# Altium schematic symbol library GCT_USB-C.SchLib: 4 symbols
Pins are listed as number, name and electrical type; pins without a type are passive.

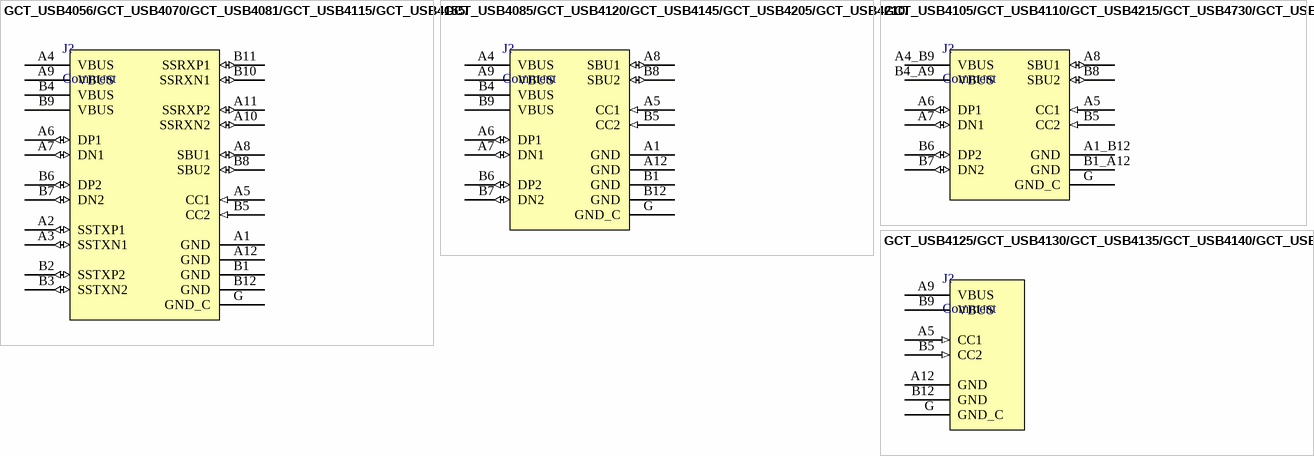
[diagram p0: symbols GCT_USB4056/GCT_USB4070/GCT_USB4081/GCT_USB4115/GCT_USB4155/GCT_USB4160/GCT_USB4200/GCT_USB4230/GCT_USB4725/GCT_USB4225/GCT_USB4745 to GCT_USB4125/GCT_USB4130/GCT_USB4135/GCT_USB4140/GCT_USB4175/GCT_USB4180]

## GCT_USB4056/GCT_USB4070/GCT_USB4081/GCT_USB4115/GCT_USB4155/GCT_USB4160/GCT_USB4200/GCT_USB4230/GCT_USB4725/GCT_USB4225/GCT_USB4745
designator J?, comment Comment
pins: A1 GND (power) "Ground return", A2 SSTXP1 (io) "Positive half of first SuperSpeed TX differential pair", A3 SSTXN1 (io) "Negative half of first SuperSpeed TX differential pair", A4 VBUS (power) "Bus Power", A5 CC1 (in) "Configuration Channel", A6 DP1 (io) "Positive half of the USB 2.0 differential pair – Position 1", A7 DN1 (io) "Negative half of the USB 2.0 differential pair – Position 1", A8 SBU1 (io) "Sideband Use (SBU)", A9 VBUS (power) "Bus Power", A10 SSRXN2 (io) "Negative half of second SuperSpeed RX differential pair", A11 SSRXP2 (io) "Positive half of second SuperSpeed RX differential pair", A12 GND (power) "Ground return", B1 GND (power) "Ground return", B2 SSTXP2 (io) "Positive half of second SuperSpeed TX differential pair", B3 SSTXN2 (io) "Negative half of second SuperSpeed TX differential pair", B4 VBUS (power) "Bus Power", B5 CC2 (in) "Configuration Channel", B6 DP2 (io) "Positive half of the USB 2.0 differential pair – Position 2", B7 DN2 (io) "Negative half of the USB 2.0 differential pair – Position 2", B8 SBU2 (io) "Sideband Use (SBU)", B9 VBUS (power) "Bus Power", B10 SSRXN1 (io) "Negative half of first SuperSpeed RX differential pair", B11 SSRXP1 (io) "Positive half of first SuperSpeed RX differential pair", B12 GND (power) "Ground return", G GND_C (power) "Chassis ground"

## GCT_USB4085/GCT_USB4120/GCT_USB4145/GCT_USB4205/GCT_USB4210/GCT_USB4220/GCT_USB4235
designator J?, comment Comment
pins: A1 GND (power) "Ground return", A4 VBUS (power) "Bus Power", A5 CC1 (in) "Configuration Channel", A6 DP1 (io) "Positive half of the USB 2.0 differential pair – Position 1", A7 DN1 (io) "Negative half of the USB 2.0 differential pair – Position 1", A8 SBU1 (io) "Sideband Use (SBU)", A9 VBUS (power) "Bus Power", A12 GND (power) "Ground return", B1 GND (power) "Ground return", B4 VBUS (power) "Bus Power", B5 CC2 (in) "Configuration Channel", B6 DP2 (io) "Positive half of the USB 2.0 differential pair – Position 2", B7 DN2 (io) "Negative half of the USB 2.0 differential pair – Position 2", B8 SBU2 (io) "Sideband Use (SBU)", B9 VBUS (power) "Bus Power", B12 GND (power) "Ground return", G GND_C (power) "Chassis ground"

## GCT_USB4105/GCT_USB4110/GCT_USB4215/GCT_USB4730/GCT_USB4800
designator J?, comment Comment
pins: A1_B12 GND (power) "Ground return", A4_B9 VBUS (power) "Bus Power", A5 CC1 (in) "Configuration Channel", A6 DP1 (io) "Positive half of the USB 2.0 differential pair – Position 1", A7 DN1 (io) "Negative half of the USB 2.0 differential pair – Position 1", A8 SBU1 (io) "Sideband Use (SBU)", B1_A12 GND (power) "Ground return", B4_A9 VBUS (power) "Bus Power", B5 CC2 (in) "Configuration Channel", B6 DP2 (io) "Positive half of the USB 2.0 differential pair – Position 2", B7 DN2 (io) "Negative half of the USB 2.0 differential pair – Position 2", B8 SBU2 (io) "Sideband Use (SBU)", G GND_C (power) "Chassis ground"

## GCT_USB4125/GCT_USB4130/GCT_USB4135/GCT_USB4140/GCT_USB4175/GCT_USB4180
designator J?, comment Comment
pins: A5 CC1 (in) "Configuration Channel", A9 VBUS (power) "Bus Power", A12 GND (power) "Ground return", B5 CC2 (in) "Configuration Channel", B9 VBUS (power) "Bus Power", B12 GND (power) "Ground return", G GND_C (power) "Chassis ground"